# Altium footprint library Leadless.PcbLib: 132 footprints (part 2 of 9)
Each footprint in its own frame and in the unit in brackets; x right, y up, seen from the top. Pads: shape width x height; smd on the part's side, far side on the other; paste and mask are expansions set on the pad; w line width, h text height; cw(c..) or ccw(c..) is an arc to the next point about the centre after c.
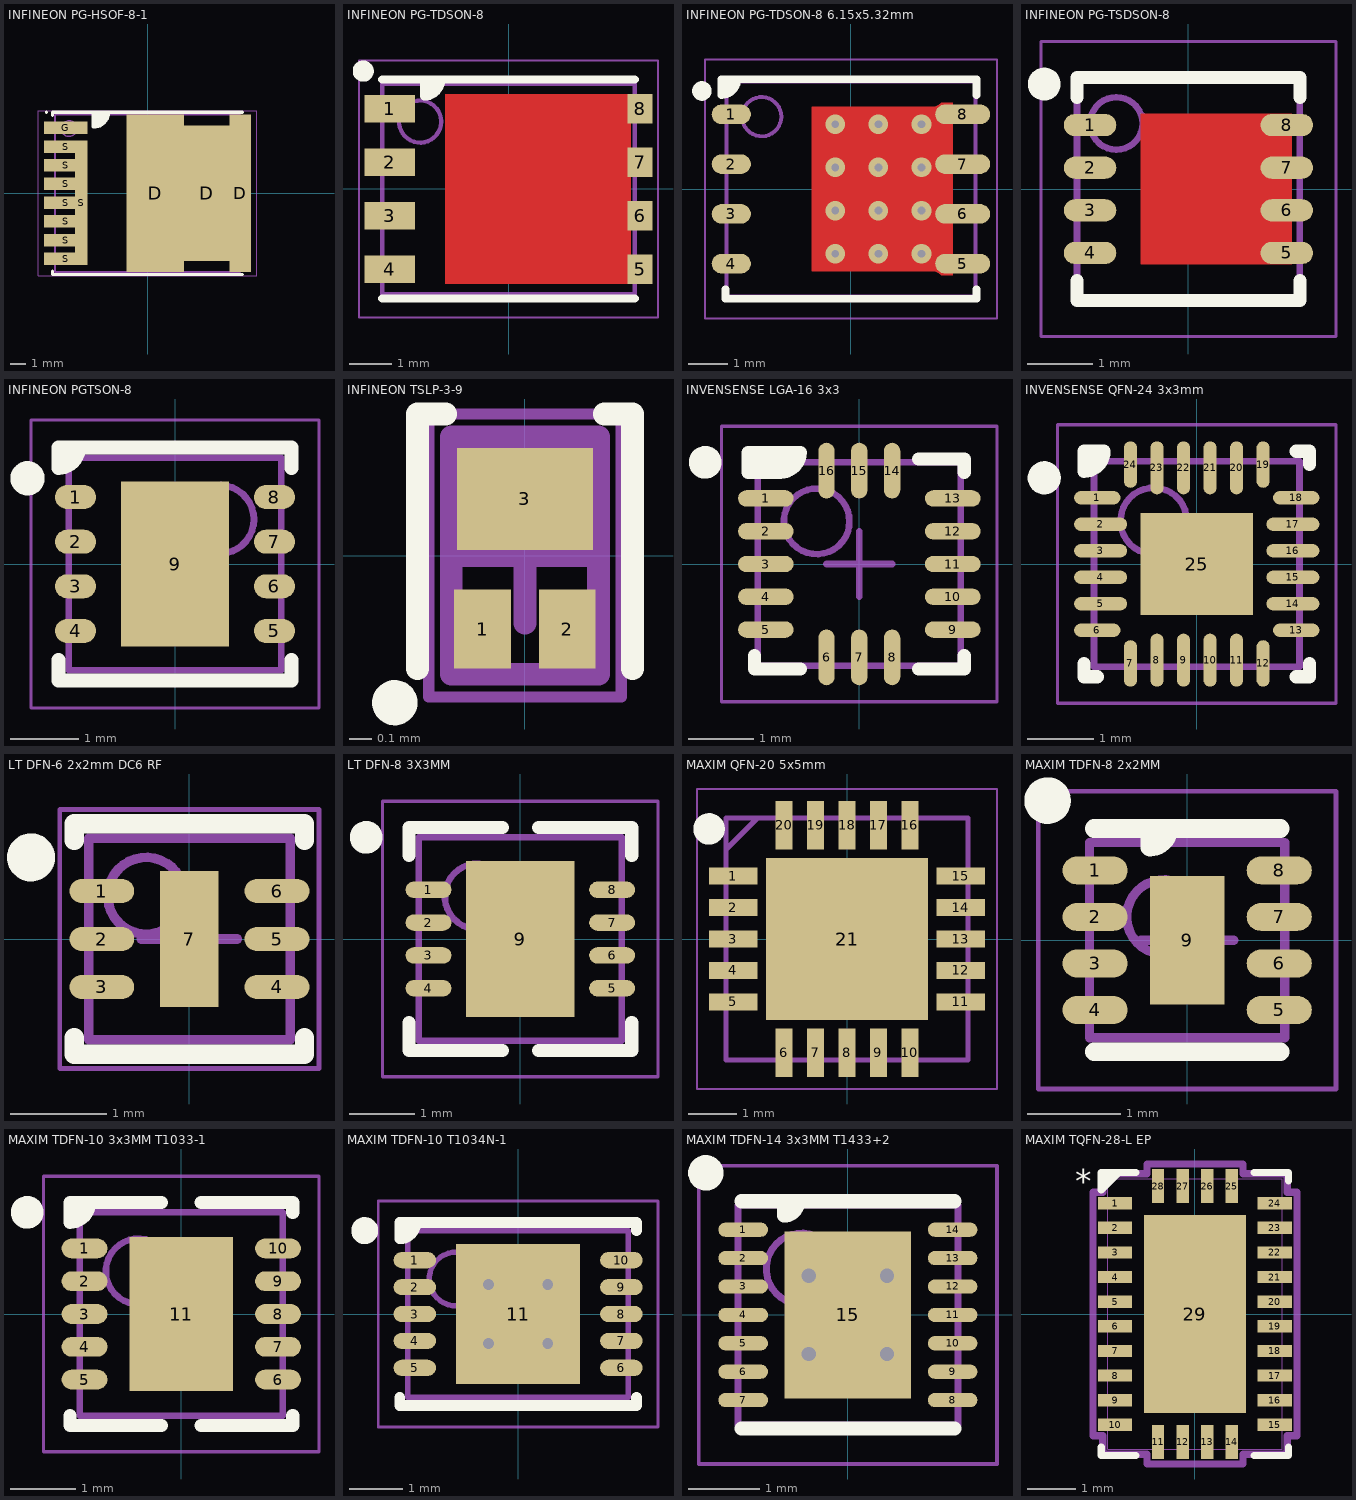
[diagram p1: the footprints below, top view; thin cyan lines are the x and y axes]

## INFINEON PG-HSOF-8-1 [mm] "SON, 16-Leads, Body 9.90x11.67mm, Pitch 1.20mm, TIPC Medium Density"
height 2.4
pads (12):
  rect 3.7x10.1 smd: D(0.5,0)
  rect 2.9x8.7 smd: D(3.8,0)
  rect 1.4x10.1 smd: D(5.95,0)
  rect 2.8x0.8 smd: G(-5.25,4.2) S(-5.25,-4.2) S(-5.25,-3) S(-5.25,-1.8) S(-5.25,-0.6) S(-5.25,0.6) S(-5.25,1.8) S(-5.25,3)
  rect 0.8x8 smd mask-10: S(-4.25,-0.6)
Top Overlay:
  circle w0.1: c-6.49,5.2 r0.05
  region: -3.5,5.2 -3.5,4.3 -3.45,4.25 -3,4.25 -2.5,4.75 -2.5,5.2
  lines w0.2: -6.09,-5 -6.09,-5.2 6.09,-5.2 ; -6.09,5 -6.09,5.2 6.09,5.2 ; -3.5,5.2 -3.5,4.25 -3.45,4.25 ccw(c-3.45,5.2) -2.5,5.2
Top Component Outline:
  circle w0.1: c-5.04,4.15 r0.5
  lines w0.1: -5.94,-5.05 -5.94,5.05 5.94,5.05 5.94,-5.05 -5.94,-5.05
Top Courtyard:
  lines w0.05: -7,-5.3 -7,5.3 7,5.3 7,-5.3 -7,-5.3
  lines w0.1: -0.5,0 0.5,0 ; 0,-0.5 0,0.5
3D body "Infineon PG-HSOF-8-1.STEP": height 2.3, standoff 0, extent -5.84,-4.95 5.84,4.95

## INFINEON PG-TDSON-8 [mm] "TDSON, 8-Leads, Body 6x5mm, Pitch 1.27mm, Thermal Pad 1.65x2.38mm, IPC Medium Density"
height 1
pads (8):
  rect 1.2x0.65 smd: 1(-2.825,1.905) 2(-2.825,0.635) 3(-2.825,-0.635) 4(-2.825,-1.905)
  rect 0.6x0.7 smd: 5(3.125,-1.905) 6(3.125,-0.635) 7(3.125,0.635) 8(3.125,1.905)
Top Layer:
  region: -1.5,-2.25 2.9,-2.25 2.9,2.25 -1.5,2.25
Top Overlay:
  circle w0.25: c-3.45,2.8 r0.125
  region: -2,2.6 -1.6,2.6 -1.6,2.52 -1.661,2.373 -1.773,2.261 -1.92,2.2 -2,2.2
  lines w0.2: -3,-2.6 3,-2.6 ; -3,2.6 3,2.6 ; -2,2.6 -2,2.2 ; -1.6,2.6 cw(c-2,2.6) -2,2.2 ; -2,2.2 -2,2.2
Top Paste:
  rectangle: -1.247,1.196 -0.1,1.941
  rectangle: -1.247,-0.895 -0.1,-0.15
  rectangle: -1.247,-1.941 -0.1,-1.196
  rectangle: -1.247,0.15 -0.1,0.895
  region: 1.247,0.895 0.1,0.895 0.1,0.15 1.247,0.15
  region: 1.247,-1.196 0.1,-1.196 0.1,-1.941 1.247,-1.941
  region: 1.247,-0.15 0.1,-0.15 0.1,-0.895 1.247,-0.895
  region: 1.247,1.941 0.1,1.941 0.1,1.196 1.247,1.196
  region: 2.594,1.941 1.447,1.941 1.447,1.196 2.594,1.196
  region: 2.594,-0.15 1.447,-0.15 1.447,-0.895 2.594,-0.895
  region: 2.594,-1.196 1.447,-1.196 1.447,-1.941 2.594,-1.941
  region: 2.594,0.895 1.447,0.895 1.447,0.15 2.594,0.15
Top Component Outline:
  circle w0.1: c-2.1,1.6 r0.5
  lines w0.1: -3,-2.5 3,-2.5 3,2.5 -3,2.5 -3,-2.5
Top Courtyard:
  lines w0.05: -3.55,-3.05 3.55,-3.05 3.55,3.05 -3.55,3.05 -3.55,-3.05
  lines w0.1: -0.5,0 0.5,0 ; 0,-0.5 0,0.5
3D body "PG-TDSON-8.STEP": height 1, standoff 0, extent -3.075,-2.575 3.075,2.575

## INFINEON PG-TDSON-8 6.15x5.32mm [mm] "TDSON, 8-Leads, Body 6.15x5.32mm, Pitch 1.27mm, Thermal Pad 3.60x4.05mm, IPC Medium Density"
height 1.1
pads (8):
  oval 1x0.5 smd: 1(-3.05,1.905) 2(-3.05,0.635) 3(-3.05,-0.635) 4(-3.05,-1.905)
  oval 1.4x0.5 smd: 5(2.85,-1.905) 6(2.85,-0.635) 7(2.85,0.635) 8(2.85,1.905)
via 1.8,-1.65 diameter 0.5 hole 0.2
via 0.7,-1.65 diameter 0.5 hole 0.2
via -0.4,-1.65 diameter 0.5 hole 0.2
via 1.8,-0.55 diameter 0.5 hole 0.2
via 0.7,-0.55 diameter 0.5 hole 0.2
via -0.4,-0.55 diameter 0.5 hole 0.2
via 1.8,0.55 diameter 0.5 hole 0.2
via 0.7,0.55 diameter 0.5 hole 0.2
via -0.4,0.55 diameter 0.5 hole 0.2
via 1.8,1.65 diameter 0.5 hole 0.2
via 0.7,1.65 diameter 0.5 hole 0.2
via -0.4,1.65 diameter 0.5 hole 0.2
Top Layer:
  region: -1,2.1 -1,-2.1 2.059,-2.1 2.092,-2.102 2.158,-2.115 2.22,-2.14 2.275,-2.177 2.3,-2.2 2.6,-2.2 2.6,2.2 2.3,2.2 2.275,2.177 2.22,2.14 2.158,2.115 2.092,2.102 2.059,2.1
Top Overlay:
  circle w0.25: c-3.8,2.5 r0.125
  region: -3.3,2.8 -2.9,2.8 -2.9,2.7 -3.2,2.4 -3.3,2.4
  lines w0.2: -3.2,-2.555 -3.2,-2.8 -0.11,-2.8 3.2,-2.8 3.2,-2.555 ; -2.9,2.8 cw(c-3.3,2.8) -3.3,2.4 ; 3.2,2.4 3.2,2.8 -0.11,2.8 -3.3,2.8 -3.3,2.4 ; -3.3,2.4 -3.3,2.4
Top Component Outline:
  circle w0.1: c-2.275,1.845 r0.5
  lines w0.1: -3.175,-2.745 3.175,-2.745 3.175,2.745 -3.175,2.745 -3.175,-2.745
Top Courtyard:
  lines w0.05: -3.725,-3.3 3.725,-3.3 3.725,3.3 -3.725,3.3 -3.725,-3.3
  lines w0.1: -0.5,0 0.5,0 ; 0,-0.5 0,0.5
3D body: height 1.1, standoff 0.01, extent -3.175,-2.745 3.175,2.745

## INFINEON PG-TSDSON-8 [mm] "PG-TSDSOFN, 8-Leads, Body 3.30x3.30mm, Pitch 0.65mm, Thermal Pad 1.70x1.70mm, IPC Medium Density"
height 1.1
pads (8):
  oval 0.8x0.34 smd: 1(-1.5,0.975) 2(-1.5,0.325) 3(-1.5,-0.325) 4(-1.5,-0.975) 5(1.5,-0.975) 6(1.5,-0.325) 7(1.5,0.325) 8(1.5,0.975)
Top Layer:
  region: -0.725,1.15 1.575,1.15 1.575,-1.15 -0.725,-1.15
Top Overlay:
  circle w0.25: c-2.2,1.6 r0.125
  lines w0.2: -1.7,-1.4 -1.7,-1.7 1.7,-1.7 1.7,-1.4 ; -1.7,1.4 -1.7,1.7 1.7,1.7 1.7,1.4
Top Component Outline:
  lines w0.1: -1.7,-1.7 1.7,-1.7 1.7,1.7 -1.7,1.7 -1.7,-1.7 ; -0.7,1 ccw(c-1.1,1) -0.7,1
Top Courtyard:
  lines w0.05: -2.25,-2.25 2.25,-2.25 2.25,2.25 -2.25,2.25 -2.25,-2.25
  lines w0.1: -0.5,0 0.5,0 ; 0,-0.5 0,0.5
3D body: height 1.1, standoff 0.01, extent -1.7,-1.7 1.7,1.7

## INFINEON PGTSON-8 [mm] "DFN, 8-Leads, Body 3.00x3.00mm, Pitch 0.65mm, Thermal Pad 2.40x1.58mm, IPC Medium Density"
height 1
pads (9):
  oval 0.6x0.35 smd: 1(-1.45,0.975) 2(-1.45,0.325) 3(-1.45,-0.325) 4(-1.45,-0.975) 5(1.45,-0.975) 6(1.45,-0.325) 7(1.45,0.325) 8(1.45,0.975)
  rect 1.58x2.4 smd: 9(0,0)
Top Overlay:
  circle w0.25: c-2.15,1.25 r0.125
  region: -1.7,1.7 -1.4,1.7 -1.7,1.4
  lines w0.2: -1.7,-1.4 -1.7,-1.7 1.7,-1.7 1.7,-1.4 ; -1.4,1.7 cw(c-1.7,1.7) -1.7,1.4 -1.7,1.7 1.7,1.7 1.7,1.4
Top Component Outline:
  circle w0.1: c0.65,0.65 r0.5
  lines w0.1: -1.55,-1.55 -1.55,1.55 1.55,1.55 1.55,-1.55 -1.55,-1.55
Top Courtyard:
  lines w0.05: -2.1,-2.1 -2.1,2.1 2.1,2.1 2.1,-2.1 -2.1,-2.1
  lines w0.1: -0.5,0 0.5,0 ; 0,-0.5 0,0.5
3D body: height 1, standoff 0.01, extent -1.55,-1.55 1.55,1.55

## INFINEON TSLP-3-9 [mm] "DFN, 3-Leads, Body 0.60x1.00mm, Pitch 0.57mm, IPC High Density"
height 0.31
pads (3):
  rect 0.25x0.35 smd: 1(-0.188,-0.325) 2(0.187,-0.325)
  rect 0.6x0.45 smd: 3(0,0.25)
Top Overlay:
  circle w0.1: c-0.575,-0.65 r0.05
  lines w0.1: -0.475,-0.5 -0.475,0.625 -0.35,0.625 ; 0.35,0.625 0.475,0.625 0.475,-0.5
Top Component Outline:
  lines w0.1: -0.325,-0.525 0.325,-0.525 0.325,0.525 -0.325,0.525 -0.325,-0.525
Top Courtyard:
  lines w0.05: -0.425,-0.625 0.425,-0.625 0.425,0.625 -0.425,0.625 -0.425,-0.625
  lines w0.1: -0.3,0 0.3,0 ; 0,-0.3 0,0.3
3D body: height 0.31, standoff 0, extent -0.325,-0.525 0.325,0.525

## INVENSENSE LGA-16 3x3 [mm] "LGA, 16-Leads, Body 3.00x3.00mm, Pitch 0.50mm, IPC Medium Density"
height 0.8
pads (16):
  oval 0.85x0.25 smd: 1(-1.425,1) 2(-1.425,0.5) 3(-1.425,0) 4(-1.425,-0.5) 5(-1.425,-1) 9(1.425,-1) 10(1.425,-0.5) 11(1.425,0) 12(1.425,0.5) 13(1.425,1)
  oval 0.25x0.85 smd: 6(-0.5,-1.425) 7(0,-1.425) 8(0.5,-1.425) 14(0.5,1.425) 15(0,1.425) 16(-0.5,1.425)
Top Overlay:
  circle w0.25: c-2.35,1.55 r0.125
  region: -0.9,1.7 -1.2,1.4 -1.7,1.4 -1.7,1.7
  lines w0.2: -1.6,-1.4 -1.6,-1.6 -0.9,-1.6 ; 0.9,-1.6 1.6,-1.6 1.6,-1.4 ; 0.9,1.6 1.6,1.6 1.6,1.4 ; -0.9,1.7 cw(c-1.2,1.7) -1.2,1.4 -1.7,1.4 -1.7,1.7 -0.9,1.7 ; -0.9,1.7 -0.9,1.7
Top Component Outline:
  circle w0.1: c-0.65,0.65 r0.5
  lines w0.1: -1.55,-1.55 1.55,-1.55 1.55,1.55 -1.55,1.55 -1.55,-1.55
Top Courtyard:
  lines w0.05: -2.1,-2.1 2.1,-2.1 2.1,2.1 -2.1,2.1 -2.1,-2.1
  lines w0.1: -0.5,0 0.5,0 ; 0,-0.5 0,0.5
3D body "INFINEON LGA-16 3x3.step": height 0.8, standoff 0, extent -1.551,-1.551 1.551,1.551

## INVENSENSE QFN-24 3x3mm [mm] "QFN, 24-Leads, Body 3.00x3.00mm, Pitch 0.40mm, Thermal Pad 1.70x1.54mm, IPC Medium Density"
height 1.05
pads (25):
  oval 0.7x0.2 smd: 1(-1.5,1) 6(-1.5,-1) 13(1.5,-1) 18(1.5,1)
  oval 0.8x0.2 smd: 2(-1.45,0.6) 3(-1.45,0.2) 4(-1.45,-0.2) 5(-1.45,-0.6) 14(1.45,-0.6) 15(1.45,-0.2) 16(1.45,0.2) 17(1.45,0.6)
  oval 0.2x0.7 smd: 7(-1,-1.5) 12(1,-1.5) 19(1,1.5) 24(-1,1.5)
  oval 0.2x0.8 smd: 8(-0.6,-1.45) 9(-0.2,-1.45) 10(0.2,-1.45) 11(0.6,-1.45) 20(0.6,1.45) 21(0.2,1.45) 22(-0.2,1.45) 23(-0.6,1.45)
  rect 1.7x1.54 smd: 25(0,0)
Top Overlay:
  circle w0.25: c-2.3,1.3 r0.125
  region: -1.7,1.7 -1.4,1.7 -1.7,1.4
  lines w0.2: -1.7,-1.5 -1.7,-1.7 -1.5,-1.7 ; 1.5,-1.7 1.7,-1.7 1.7,-1.5 ; 1.5,1.7 1.7,1.7 1.7,1.5 ; -1.7,1.4 ccw(c-1.7,1.7) -1.4,1.7 -1.7,1.7 -1.7,1.4
Top Component Outline:
  circle w0.1: c-0.65,0.65 r0.5
  lines w0.1: -1.55,-1.55 1.55,-1.55 1.55,1.55 -1.55,1.55 -1.55,-1.55
Top Courtyard:
  lines w0.05: -2.1,-2.1 2.1,-2.1 2.1,2.1 -2.1,2.1 -2.1,-2.1
  lines w0.1: -0.5,0 0.5,0 ; 0,-0.5 0,0.5
3D body "INVENSENSE QFN-24 3x3mm.step": height 1.05, standoff 0, extent -1.551,-1.551 1.551,1.551

## LT DFN-6 2x2mm DC6 RF [mm] "DFN, 6-Leads, Body 2.00x2.00mm, Pitch 0.50mm, Thermal Pad 0.61x1.42mm, IPC High Density"
height 0.75
pads (7):
  oval 0.675x0.25 smd: 1(-0.913,0.5) 2(-0.913,0) 3(-0.913,-0.5) 4(0.913,-0.5) 5(0.913,0) 6(0.913,0.5)
  rect 0.61x1.42 smd: 7(0,0)
Top Overlay:
  circle w0.25: c-1.65,0.85 r0.125
  lines w0.2: -1.2,-1.025 -1.2,-1.2 1.2,-1.2 1.2,-1.025 ; -1.2,1.025 -1.2,1.2 1.2,1.2 1.2,1.025
Top Component Outline:
  circle w0.1: c-0.45,0.45 r0.4
  lines w0.1: -1.05,-1.05 1.05,-1.05 1.05,1.05 -1.05,1.05 -1.05,-1.05
Top Courtyard:
  lines w0.05: -1.35,-1.35 1.35,-1.35 1.35,1.35 -1.35,1.35 -1.35,-1.35
  lines w0.1: -0.5,0 0.5,0 ; 0,-0.5 0,0.5
3D body: height 0.75, standoff 0.01, extent -1.05,-1.05 1.05,1.05

## LT DFN-8 3X3MM [mm] "DFN, 8-Leads, Body 3.00x3.00mm, Pitch 0.50mm, Thermal Pad 1.65x2.38mm, IPC Medium Density"
height 0.75
pads (9):
  oval 0.7x0.25 smd: 1(-1.4,0.75) 2(-1.4,0.25) 3(-1.4,-0.25) 4(-1.4,-0.75) 5(1.4,-0.75) 6(1.4,-0.25) 7(1.4,0.25) 8(1.4,0.75)
  rect 1.65x2.38 smd: 9(0,0)
Top Overlay:
  circle w0.25: c-2.35,1.55 r0.125
  lines w0.2: -1.7,-1.275 -1.7,-1.7 -0.275,-1.7 ; -1.7,1.275 -1.7,1.7 -0.275,1.7 ; 0.275,-1.7 1.7,-1.7 1.7,-1.275 ; 0.275,1.7 1.7,1.7 1.7,1.275
Top Component Outline:
  circle w0.1: c-0.65,0.65 r0.5
  lines w0.1: -1.55,-1.55 -1.55,1.55 1.55,1.55 1.55,-1.55 -1.55,-1.55
Top Courtyard:
  lines w0.05: -2.1,-2.1 -2.1,2.1 2.1,2.1 2.1,-2.1 -2.1,-2.1
  lines w0.1: -0.5,0 0.5,0 ; 0,-0.5 0,0.5
3D body: height 0.75, standoff 0.01, extent -1.55,-1.55 1.55,1.55

## MAXIM QFN-20 5x5mm [mm]
height 2
pads (21):
  rect 1x0.35 smd: 1(-2.35,1.3) 2(-2.35,0.65) 3(-2.35,0) 4(-2.35,-0.65) 5(-2.35,-1.3) 11(2.35,-1.3) 12(2.35,-0.65) 13(2.35,0) 14(2.35,0.65) 15(2.35,1.3)
  rect 0.35x1 smd: 6(-1.3,-2.35) 7(-0.65,-2.35) 8(0,-2.35) 9(0.65,-2.35) 10(1.3,-2.35) 16(1.3,2.35) 17(0.65,2.35) 18(0,2.35) 19(-0.65,2.35) 20(-1.3,2.35)
  rect 3.35x3.35 smd: 21(0,0)
Top Overlay:
  circle w0.325: c-2.85,2.275 r0.162
Top Component Outline:
  lines w0.1: -2.5,1.85 -1.85,2.5 ; -2.5,-2.5 2.5,-2.5 2.5,2.5 -2.5,2.5 -2.5,-2.5
Top Courtyard:
  lines w0.05: -3.1,-3.1 3.1,-3.1 3.1,3.1 -3.1,3.1 -3.1,-3.1
3D body "MAXIM QFN-20 5x5.step": height 0.88, standoff -0.02, extent -2.51,-2.51 2.51,2.51

## MAXIM TDFN-8 2x2MM [mm] "DFN, 8-Leads, Body 2.00x2.00mm, Pitch 0.50mm, Thermal Pad 0.80x1.38mm, IPC Medium Density"
height 0.8
pads (9):
  oval 0.7x0.3 smd: 1(-0.99,0.75) 2(-0.99,0.25) 3(-0.99,-0.25) 4(-0.99,-0.75) 5(0.99,-0.75) 6(0.99,-0.25) 7(0.99,0.25) 8(0.99,0.75)
  rect 0.8x1.38 smd: 9(0,0)
Top Overlay:
  circle w0.25: c-1.5,1.5 r0.125
  lines w0.2: -1,-1.2 1,-1.2 ; -1,1.2 1,1.2 ; -0.4,1.2 -0.4,1 ccw(c-0.4,1.2) -0.2,1.2
Top Component Outline:
  circle w0.1: c-0.25,0.25 r0.4
  lines w0.1: -1.05,-1.05 1.05,-1.05 1.05,1.05 -1.05,1.05 -1.05,-1.05
Top Courtyard:
  lines w0.05: -1.6,-1.6 1.6,-1.6 1.6,1.6 -1.6,1.6 -1.6,-1.6
  lines w0.1: -0.5,0 0.5,0 ; 0,-0.5 0,0.5
3D body: height 0.8, standoff 0.01, extent -1.05,-1.05 1.05,1.05

## MAXIM TDFN-10 3x3MM T1033-1 [mm] "DFN, 10-Leads, Body 3.00x3.00mm, Pitch 0.50mm, Thermal Pad 1.58x2.35mm, IPC Medium Density"
height 0.8
pads (11):
  oval 0.7x0.3 smd: 1(-1.475,1) 2(-1.475,0.5) 3(-1.475,0) 4(-1.475,-0.5) 5(-1.475,-1) 6(1.475,-1) 7(1.475,-0.5) 8(1.475,0) 9(1.475,0.5) 10(1.475,1)
  rect 1.58x2.35 smd: 11(0,0)
Top Overlay:
  circle w0.25: c-2.35,1.55 r0.125
  region: -1.4,1.7 -1.7,1.7 -1.7,1.4
  lines w0.2: -1.7,-1.55 -1.7,-1.7 -0.3,-1.7 ; -1.4,1.7 cw(c-1.7,1.7) -1.7,1.4 ; -0.3,1.7 -1.7,1.7 -1.7,1.4 ; 0.3,-1.7 1.7,-1.7 1.7,-1.55 ; 0.3,1.7 1.7,1.7 1.7,1.55 ; -1.7,1.4 -1.7,1.4
Top Component Outline:
  circle w0.1: c-0.65,0.65 r0.5
  lines w0.1: -1.55,-1.55 -1.55,1.55 1.55,1.55 1.55,-1.55 -1.55,-1.55
Top Courtyard:
  lines w0.05: -2.1,-2.1 -2.1,2.1 2.1,2.1 2.1,-2.1 -2.1,-2.1
  lines w0.1: -0.5,0 0.5,0 ; 0,-0.5 0,0.5
3D body: height 0.8, standoff 0.01, extent -1.55,-1.55 1.55,1.55

## MAXIM TDFN-10 T1034N-1 [mm] "DFN, 10-Leads, Body 4.00x3.00mm, Pitch 0.50mm, Thermal Pad 2.30x2.60mm, IPC Medium Density"
height 0.8
pads (11):
  oval 0.79x0.3 smd: 1(-1.92,1) 2(-1.92,0.5) 3(-1.92,0) 4(-1.92,-0.5) 5(-1.92,-1) 6(1.92,-1) 7(1.92,-0.5) 8(1.92,0) 9(1.92,0.5) 10(1.92,1)
  rect 2.3x2.6 smd: 11(0,0)
via -0.55,0.55 diameter 0.5 hole 0.2
via 0.55,0.55 diameter 0.5 hole 0.2
via -0.55,-0.55 diameter 0.5 hole 0.2
via 0.55,-0.55 diameter 0.5 hole 0.2
Top Overlay:
  circle w0.25: c-2.85,1.55 r0.125
  region: -1.9,1.7 -2.2,1.7 -2.2,1.4 -2.1,1.4 -2,1.5
  lines w0.2: -2.2,-1.55 -2.2,-1.7 2.2,-1.7 2.2,-1.55 ; -1.9,1.7 cw(c-2.2,1.7) -2.2,1.4 ; 2.2,1.55 2.2,1.7 -2.2,1.7 -2.2,1.4 ; -2.2,1.4 -2.2,1.4
Top Component Outline:
  circle w0.1: c-1.15,0.65 r0.5
  lines w0.1: -2.05,-1.55 -2.05,1.55 2.05,1.55 2.05,-1.55 -2.05,-1.55
Top Courtyard:
  lines w0.05: -2.6,-2.1 -2.6,2.1 2.6,2.1 2.6,-2.1 -2.6,-2.1
  lines w0.1: -0.5,0 0.5,0 ; 0,-0.5 0,0.5
3D body: height 0.8, standoff 0.01, extent -2.05,-1.55 2.05,1.55

## MAXIM TDFN-14 3x3MM T1433+2 [mm] "DFN, 14-Leads, Body 3.00x3.00mm, Pitch 0.40mm, Thermal Pad 1.78x2.35mm, IPC Medium Density"
height 0.8
pads (15):
  oval 0.7x0.2 smd: 1(-1.475,1.2) 2(-1.475,0.8) 3(-1.475,0.4) 4(-1.475,0) 5(-1.475,-0.4) 6(-1.475,-0.8) 7(-1.475,-1.2) 8(1.475,-1.2) 9(1.475,-0.8) 10(1.475,-0.4) 11(1.475,0) 12(1.475,0.4) 13(1.475,0.8) 14(1.475,1.2)
  rect 1.78x2.35 smd: 15(0,0)
via -0.55,0.55 diameter 0.5 hole 0.2
via 0.55,0.55 diameter 0.5 hole 0.2
via -0.55,-0.55 diameter 0.5 hole 0.2
via 0.55,-0.55 diameter 0.5 hole 0.2
Top Overlay:
  circle w0.25: c-2,2 r0.125
  lines w0.2: -1.5,-1.6 1.5,-1.6 ; -1.5,1.6 1.5,1.6 ; -0.9,1.6 -0.9,1.4 ccw(c-0.9,1.6) -0.7,1.6
Top Component Outline:
  circle w0.1: c-0.65,0.65 r0.5
  lines w0.1: -1.55,-1.55 -1.55,1.55 1.55,1.55 1.55,-1.55 -1.55,-1.55
Top Courtyard:
  lines w0.05: -2.1,-2.1 -2.1,2.1 2.1,2.1 2.1,-2.1 -2.1,-2.1
  lines w0.1: -0.5,0 0.5,0 ; 0,-0.5 0,0.5
3D body: height 0.8, standoff 0.01, extent -1.55,-1.55 1.55,1.55

## MAXIM TQFN-28-L EP [mil] "Maxim 28 pin TQFN with Expansion Pad"
height 33.46
pads (29):
  rect 27.87x10.03 smd paste+0 mask+0: 1(-64.94,90) 2(-64.94,70) 3(-64.94,50) 4(-64.94,30) 5(-64.94,10) 6(-64.94,-10) 7(-64.94,-30) 8(-64.94,-50) 9(-64.94,-70) 10(-64.94,-90) 15(64.94,-90) 16(64.94,-70) 17(64.94,-50) 18(64.94,-30) 19(64.94,-10) 20(64.94,10) 21(64.94,30) 22(64.94,50) 23(64.94,70) 24(64.94,90)
  rect 10.03x27.87 smd paste+0 mask+0: 11(-30,-103.94) 12(-10,-103.94) 13(10,-103.94) 14(30,-103.94) 25(30,103.94) 26(10,103.94) 27(-10,103.94) 28(-30,103.94)
  rect 83.07x160.63 smd: 29(0,0)
Top Overlay:
  lines w5.98: -76,101.06 -62.06,115 ; -76,108.03 -69.03,115
  lines w6: -76,-108.12 -76,-115 -48.12,-115 ; -76,101.06 -76,115 -48.12,115 ; 48.12,-115 76,-115 76,-108.12 ; 48.12,115 76,115 76,108.12
  text "*" at -97.44,98.1 h19.68
Assembly Notes:
  lines w1: -71,-110 71,-110 71,110 -71,110 -71,-110 ; -71,-96 -71,-84 -71,-96 ; -71,-76 -71,-64 -71,-76 ; -71,-56 -71,-44 -71,-56 ; -71,-36 -71,-24 -71,-36 ; -71,-16 -71,-4 -71,-16 ; -71,4 -71,16 -71,4 ; -71,24 -71,36 -71,24 ; -71,44 -71,56 -71,44 ; -71,64 -71,76 -71,64 ; -71,84 -71,96 -71,84 ; -36,-110 -24,-110 -36,-110 ; -36,110 -24,110 -36,110 ; -16,-110 -4,-110 -16,-110 ; -16,110 -4,110 -16,110 ; 4,-110 16,-110 4,-110 ; 4,110 16,110 4,110 ; 24,-110 36,-110 24,-110 ; 24,110 36,110 24,110 ; 71,-96 71,-84 71,-96 ; 71,-76 71,-64 71,-76 ; 71,-56 71,-44 71,-56 ; 71,-36 71,-24 71,-36 ; 71,-16 71,-4 71,-16 ; 71,4 71,16 71,4 ; 71,24 71,36 71,24 ; 71,44 71,56 71,44 ; 71,64 71,76 71,64 ; 71,84 71,96 71,84
Dimensions:
  lines w6: -82.87,-99.02 -75,-99.02 -75,-114 -39.02,-114 -39.02,-121.87 39.02,-121.87 39.02,-114 75,-114 75,-99.02 82.87,-99.02 82.87,99.02 75,99.02 75,114 39.02,114 39.02,121.87 -39.02,121.87 -39.02,114 -75,114 -75,99.02 -82.87,99.02 -82.87,-99.02
3D body "21-0184D_MXM.step": height 55.12, standoff 0, extent -70.98,-109.99 70.99,110.01